# EAGLE library part RELAY-SLA-05VDC-SL-C (library template)
· Up to 30A switching in SPST and 20A switching in spot arrangements. · Available as an open-frame relay, with a snap-on dust cover or with an immersion cleanable, plastic sealed case.
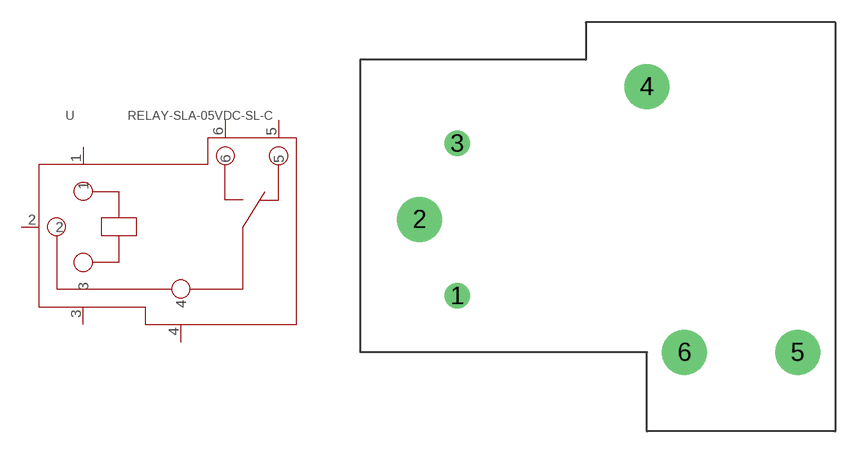
[diagram p28: symbol with the pads of 6P-19.8H; footprint 6P-19.8H]

Designator prefix U

## RELAY-SLA-05VDC-SL-C  [6P-19.8H]
1  1
2  2
3  3
4  4
5  5
6  6

## Footprint 6P-19.8H (pad centres in mm)
drill 1 pad 1.7: 1 -9.4,-4.6; 3 -9.4,5.6
drill 2 pad 3: 2 -11.94,0.5; 4 3.3,9.4; 5 13.4,-8.4; 6 5.8,-8.4